# EAGLE library part P2 (library p2-evalboard-v1.0.0)
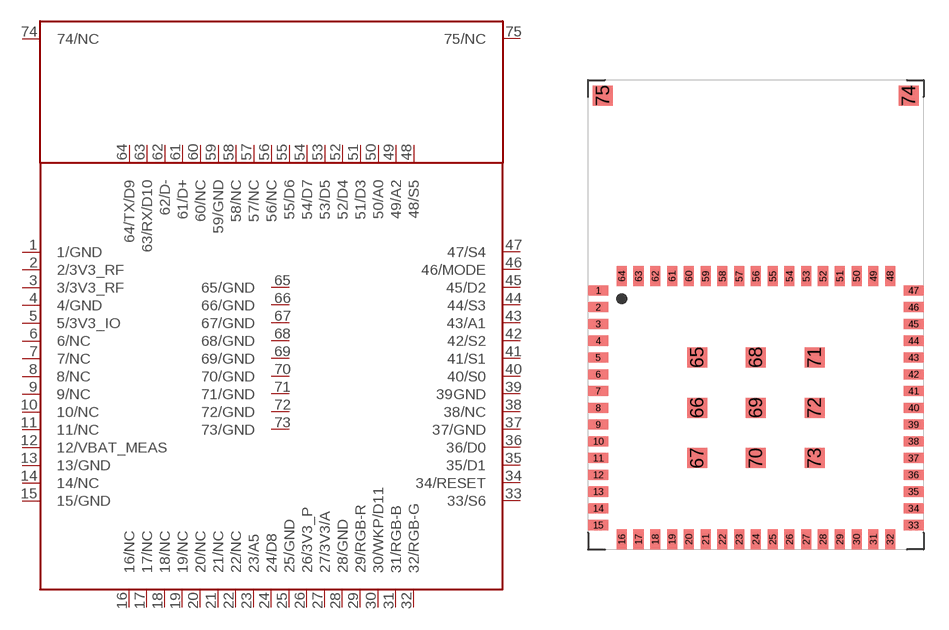
[diagram p6: symbol with the pads of TRON; footprint TRON]

Designator prefix U1

## P2  [TRON]
1  1/GND
2  2/3V3_RF
3  3/3V3_RF
4  4/GND
5  5/3V3_IO
6  6/NC
7  7/NC
8  8/NC
9  9/NC
10  10/NC
11  11/NC
12  12/VBAT_MEAS
13  13/GND
14  14/NC
15  15/GND
16  16/NC
17  17/NC
18  18/NC
19  19/NC
20  20/NC
21  21/NC
22  22/NC
23  23/A5
24  24/D8
25  25/GND
26  26/3V3_P
27  27/3V3/A
28  28/GND
29  29/RGB-R
30  30/WKP/D11
31  31/RGB-B
32  32/RGB-G
33  33/S6
34  34/RESET
35  35/D1
36  36/D0
37  37/GND
38  38/NC
39  39GND
40  40/S0
41  41/S1
42  42/S2
43  43/A1
44  44/S3
45  45/D2
46  46/MODE
47  47/S4
48  48/S5
49  49/A2
50  50/A0
51  51/D3
52  52/D4
53  53/D5
54  54/D7
55  55/D6
56  56/NC
57  57/NC
58  58/NC
59  59/GND
60  60/NC
61  61/D+
62  62/D-
63  63/RX/D10
64  64/TX/D9
65  65/GND
66  66/GND
67  67/GND
68  68/GND
69  69/GND
70  70/GND
71  71/GND
72  72/GND
73  73/GND
74  74/NC
75  75/NC

## Footprint TRON (pad centres in mm)
smd 1.2 x 0.6: 1 0.6,15.45; 2 0.6,14.45; 3 0.6,13.45; 4 0.6,12.45; 5 0.6,11.45; 6 0.6,10.45; 7 0.6,9.45; 8 0.6,8.45; 9 0.6,7.45; 10 0.6,6.45; 11 0.6,5.45; 12 0.6,4.45; 13 0.6,3.45; 14 0.6,2.45; 15 0.6,1.45; 33 19.4,1.45; 34 19.4,2.45; 35 19.4,3.45; 36 19.4,4.45; 37 19.4,5.45; 38 19.4,6.45; 39 19.4,7.45; 40 19.4,8.45; 41 19.4,9.45; 42 19.4,10.45; 43 19.4,11.45; 44 19.4,12.45; 45 19.4,13.45; 46 19.4,14.45; 47 19.4,15.45
smd 0.6 x 1.2: 16 2,0.6; 17 3,0.6; 18 4,0.6; 19 5,0.6; 20 6,0.6; 21 7,0.6; 22 8,0.6; 23 9,0.6; 24 10,0.6; 25 11,0.6; 26 12,0.6; 27 13,0.6; 28 14,0.6; 29 15,0.6; 30 16,0.6; 31 17,0.6; 32 18,0.6; 48 18,16.3; 49 17,16.3; 50 16,16.3; 51 15,16.3; 52 14,16.3; 53 13,16.3; 54 12,16.3; 55 11,16.3; 56 10,16.3; 57 9,16.3; 58 8,16.3; 59 7,16.3; 60 6,16.3; 61 5,16.3; 62 4,16.3; 63 3,16.3; 64 2,16.3
smd 1.2 x 1.2: 65 6.5,11.45; 66 6.5,8.45; 67 6.5,5.45; 68 10,11.45; 69 10,8.45; 70 10,5.45; 71 13.5,11.45; 72 13.5,8.45; 73 13.5,5.45; 74 19.12,27.07; 75 0.88,27.07